# Altium schematic symbol library Raspberry_Pi.SchLib: 1 symbol
Pins are listed as number, name and electrical type; pins without a type are passive.

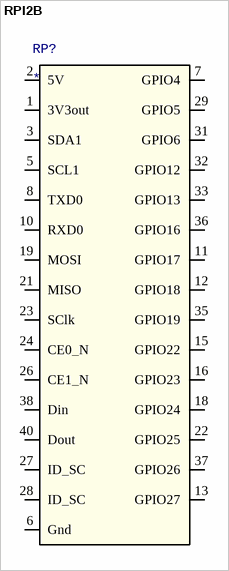
[diagram p0: symbol RPI2B]

## RPI2B
designator RP?
Raspberry Pi 2 Model B
footprint RPI2B-BU (Connector for Raspberry Pi 2 Model B, bottom up)
pins: 1 3V3out (power), 2 5V (power), 3 SDA1, 4 5V (power), 5 SCL1, 6 Gnd (power), 7 GPIO4, 8 TXD0, 9 Gnd (power), 10 RXD0, 11 GPIO17, 12 GPIO18, 13 GPIO27, 14 Gnd (power), 15 GPIO22, 16 GPIO23, 17 3V3out (power), 18 GPIO24, 19 MOSI, 20 Gnd (power), 21 MISO, 22 GPIO25, 23 SClk, 24 CE0_N, 25 Gnd (power), 26 CE1_N, 27 ID_SC, 28 ID_SC, 29 GPIO5, 30 Gnd (power), 31 GPIO6, 32 GPIO12, 33 GPIO13, 34 Gnd (power), 35 GPIO19, 36 GPIO16, 37 GPIO26, 38 Din, 39 Gnd (power), 40 Dout